# Altium integrated library TAJC106J016RNJ.IntLib: 1 symbol
Pins are listed as number, name and electrical type; pins without a type are passive.

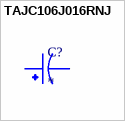
[diagram p0: symbol TAJC106J016RNJ]

## TAJC106J016RNJ
designator C?
10ÂµF Molded Tantalum Capacitors 16V 2312 (6032 Metric) 2Ohm; MP: TAJC106J016RNJ; MF: AVX; Availability: Bad; Package: 2312 AVX; SnapEDA_Link: https://www.snapeda.com/parts/TAJC106J016RNJ/AVX/view-part/1684768/?ref=snap; Check_prices: https://www.snapeda.com/parts/TAJC106J016RNJ/AVX/view-part/1684768/?ref=eda; Value: *; Price: None; Purchase-URL: https://pricing.snapeda.com/search/part/TAJC106J016RNJ/?ref=eda
footprint CAPPM6032X280N
pins: 1, 2